# EAGLE library part BQ76930 (library FlashPCB_ICs)
BQ76930 - IC BATT MON MULTI 6-10C 30TSSOP Technical Specifications: Function: Battery Monitor Battery Chemistry: Multi-Chemistry Number of Cells: 6 ~ 10 Fault Protection: Over Current, Over/Under Voltage, Short Circuit Interface: I2C Operating Temperature: -40°C ~ 85°C (TA) Component Search: BQ76930 <https://www.flashpcb.com/components?page=1&searchTerms=BQ76930> Datasheet: BQ769x0 <https://www.ti.com/lit/ds/symlink/bq76920.pdf?HQS=dis-dk-null-digikeymode-dsf-pf-null-wwe&ts=1713993875863&ref_url=https%253A%252F%252Fwww.ti.com%252Fgeneral%252Fdocs%252Fsuppproductinfo.tsp%253FdistId%253D10%2526gotoUrl%253Dhttps%253A%252F%252Fwww.ti.com%252Flit%252Fgpn%252Fbq76920>
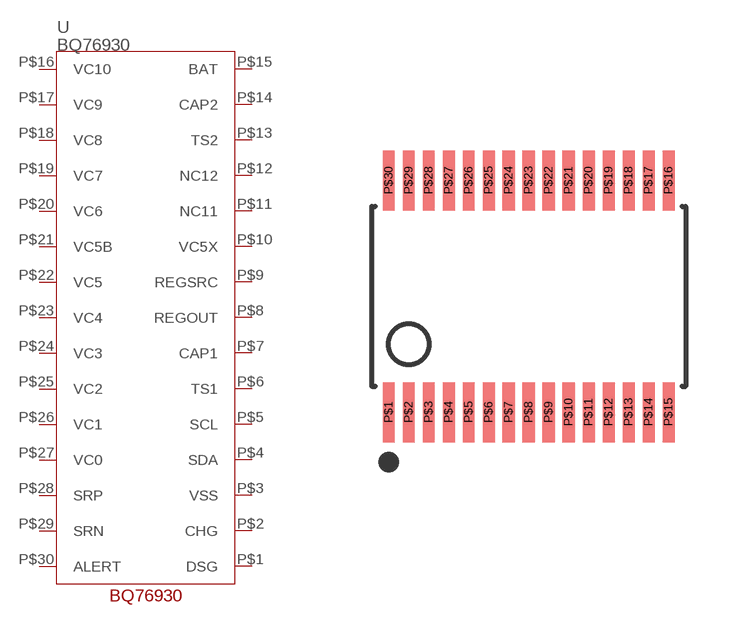
[diagram p30: symbol with the pads of 30-TSSOP; footprint 30-TSSOP]

Designator prefix U

## BQ76930  [30-TSSOP]
P$1  DSG
P$2  CHG
P$3  VSS
P$4  SDA
P$5  SCL
P$6  TS1
P$7  CAP1
P$8  REGOUT
P$9  REGSRC
P$10  VC5X
P$11  NC11
P$12  NC12
P$13  TS2
P$14  CAP2
P$15  BAT
P$16  VC10
P$17  VC9
P$18  VC8
P$19  VC7
P$20  VC6
P$21  VC5B
P$22  VC5
P$23  VC4
P$24  VC3
P$25  VC2
P$26  VC1
P$27  VC0
P$28  SRP
P$29  SRN
P$30  ALERT

## Footprint 30-TSSOP (pad centres in mm)
smd 0.3 x 1.5: P$1 -3.5,-2.9; P$2 -3,-2.9; P$3 -2.5,-2.9; P$4 -2,-2.9; P$5 -1.5,-2.9; P$6 -1,-2.9; P$7 -0.5,-2.9; P$8 0,-2.9; P$9 0.5,-2.9; P$10 1,-2.9; P$11 1.5,-2.9; P$12 2,-2.9; P$13 2.5,-2.9; P$14 3,-2.9; P$15 3.5,-2.9; P$16 3.5,2.9; P$17 3,2.9; P$18 2.5,2.9; P$19 2,2.9; P$20 1.5,2.9; P$21 1,2.9; P$22 0.5,2.9; P$23 0,2.9; P$24 -0.5,2.9; P$25 -1,2.9; P$26 -1.5,2.9; P$27 -2,2.9; P$28 -2.5,2.9; P$29 -3,2.9; P$30 -3.5,2.9